# Altium footprint library BOUR-SRP1270-100M-2_V.PcbLib: 1 footprints
Each footprint in its own frame and in the unit in brackets; x right, y up, seen from the top. Pads: shape width x height; smd on the part's side, far side on the other; paste and mask are expansions set on the pad; w line width, h text height; cw(c..) or ccw(c..) is an arc to the next point about the centre after c.
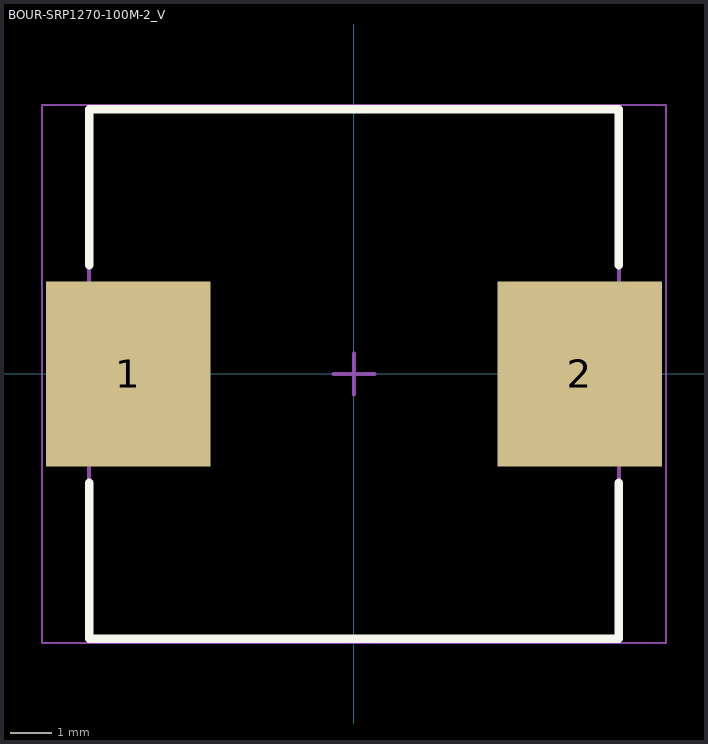
[diagram p0: the footprint, top view; thin cyan lines are the x and y axes]

## BOUR-SRP1270-100M-2_V [mm] "SMD, 2-Leads, Body 12.9x12.9mm"
height 7
pads (2):
  rect 4x4.5 smd: 1(-5.5,0) 2(5.5,0)
Top Overlay:
  lines w0.2: -6.45,-2.65 -6.45,-6.45 6.45,-6.45 6.45,-2.65 ; -6.45,2.65 -6.45,6.45 6.45,6.45 6.45,2.65
Mechanical 13:
  lines w0.1: -6.45,-6.45 -6.45,6.45 6.45,6.45 6.45,-6.45 -6.45,-6.45
Mechanical 15:
  lines w0.05: -7.6,-6.55 7.6,-6.55 7.6,6.55 -7.6,6.55 -7.6,-6.55
  lines w0.1: -0.5,0 0.5,0 ; 0,-0.5 0,0.5
3D body: height 7, standoff 0, extent -6.45,-6.45 6.45,6.45